# Altium footprint library mva_Connector.PcbLib: 3 footprints
Each footprint in its own frame and in the unit in brackets; x right, y up, seen from the top. Pads: shape width x height; smd on the part's side, far side on the other; paste and mask are expansions set on the pad; w line width, h text height; cw(c..) or ccw(c..) is an arc to the next point about the centre after c.
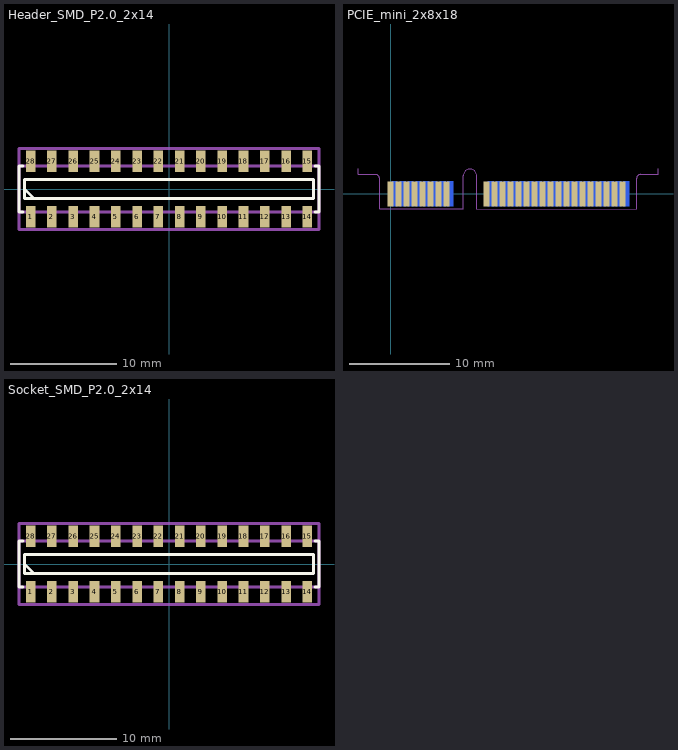
[diagram p0: the footprints below, top view; thin cyan lines are the x and y axes]

## Header_SMD_P2.0_2x14 [mm]
pads (28):
  rect 0.9x2 smd: 1(-13,-2.607) 2(-11,-2.607) 3(-9,-2.607) 4(-7,-2.607) 5(-5,-2.607) 6(-3,-2.607) 7(-1,-2.607) 8(1,-2.607) 9(3,-2.607) 10(5,-2.607) 11(7,-2.607) 12(9,-2.607) 13(11,-2.607) 14(13,-2.607) 15(13,2.607) 16(11,2.607) 17(9,2.607) 18(7,2.607) 19(5,2.607) 20(3,2.607) 21(1,2.607) 22(-1,2.607) 23(-3,2.607) 24(-5,2.607) 25(-7,2.607) 26(-9,2.607) 27(-11,2.607) 28(-13,2.607)
Top Overlay:
  lines w0.254: -13.716,-2.159 -14.097,-2.159 -14.097,2.159 -13.716,2.159 ; -13.589,0 -12.7,-0.889 ; 13.716,-2.159 14.097,-2.159 14.097,2.159 13.716,2.159 ; -13.589,-0.889 13.589,-0.889 13.589,0.889 -13.589,0.889 -13.589,-0.889
Mechanical 13:
  lines w0.254: -14.097,-2.159 -14.097,2.159 14.097,2.159 14.097,-2.159 -14.097,-2.159
Mechanical 15:
  lines w0.254: -14.097,-3.81 14.097,-3.81 14.097,3.81 -14.097,3.81 -14.097,-2.159 -14.097,-3.81
3D body "PinHeader_2x14_P2.00mm_Vertical_SMD.step": height 6, standoff 0, extent -14,-3.1 14,3.1

## PCIE_mini_2x8x18 [mm]
pads (59):
  rect 0.6x2.5 smd: 1(0,0) 1(0,0) 1(0,0) 3(0.8,0) 5(1.6,0) 7(2.4,0) 9(3.2,0) 11(4,0) 13(4.8,0) 15(5.6,0) 17(9.588,0) 17(9.6,0) 17(9.6,0) 17(9.6,0) 19(10.4,0) 21(11.2,0) 23(12,0) 25(12.8,0) 27(13.6,0) 29(14.4,0) 31(15.2,0) 33(16,0) 35(16.8,0) 37(17.6,0) 39(18.4,0) 41(19.2,0) 43(20,0) 45(20.8,0) 47(21.6,0) 49(22.4,0) 51(23.2,0)
  rect 0.6x2.5 smd far side: 2(0.4,0) 2(0.4,0) 4(1.2,0) 6(2,0) 8(2.8,0) 10(3.6,0) 12(4.4,0) 14(5.2,0) 16(6,0) 18(10,0) 18(10,0) 20(10.8,0) 22(11.6,0) 24(12.4,0) 26(13.2,0) 28(14,0) 30(14.8,0) 32(15.6,0) 34(16.4,0) 36(17.2,0) 38(18,0) 40(18.8,0) 42(19.6,0) 44(20.4,0) 46(21.2,0) 48(22,0) 50(22.8,0) 52(23.6,0)
Mechanical 1:
  lines w0.1: -3.25,2.5 -3.25,1.95 -1.475,1.95 cw(c-1.475,1.575) -1.1,1.575 -1.1,-1.5 7.275,-1.5 7.275,1.825 cw(c7.95,1.825) 8.625,1.825 8.625,-1.5 24.6,-1.5 24.6,1.575 cw(c24.975,1.575) 24.975,1.95 26.75,1.95 26.75,2.5

## Socket_SMD_P2.0_2x14 [mm]
pads (28):
  rect 0.9x2 smd: 1(-13,-2.607) 2(-11,-2.607) 3(-9,-2.607) 4(-7,-2.607) 5(-5,-2.607) 6(-3,-2.607) 7(-1,-2.607) 8(1,-2.607) 9(3,-2.607) 10(5,-2.607) 11(7,-2.607) 12(9,-2.607) 13(11,-2.607) 14(13,-2.607) 15(13,2.607) 16(11,2.607) 17(9,2.607) 18(7,2.607) 19(5,2.607) 20(3,2.607) 21(1,2.607) 22(-1,2.607) 23(-3,2.607) 24(-5,2.607) 25(-7,2.607) 26(-9,2.607) 27(-11,2.607) 28(-13,2.607)
Top Overlay:
  lines w0.254: -13.716,-2.159 -14.097,-2.159 -14.097,2.159 -13.716,2.159 ; -13.589,0 -12.7,-0.889 ; 13.716,-2.159 14.097,-2.159 14.097,2.159 13.716,2.159 ; -13.589,-0.889 13.589,-0.889 13.589,0.889 -13.589,0.889 -13.589,-0.889
Mechanical 13:
  lines w0.254: -14.097,-2.159 -14.097,2.159 14.097,2.159 14.097,-2.159 -14.097,-2.159
Mechanical 15:
  lines w0.254: -14.097,-3.81 14.097,-3.81 14.097,3.81 -14.097,3.81 -14.097,-2.159 -14.097,-3.81
3D body "PinSocket_2x14_P2.00mm_Vertical_SMD.step": height 4.8, standoff 0, extent -14,-3.05 14,3.05